# Altium footprint library TerminalBlock_WAGO.PcbLib: 170 footprints (part 9 of 11)
Each footprint in its own frame and in the unit in brackets; x right, y up, seen from the top. Pads: shape width x height; smd on the part's side, far side on the other; paste and mask are expansions set on the pad; w line width, h text height; cw(c..) or ccw(c..) is an arc to the next point about the centre after c.
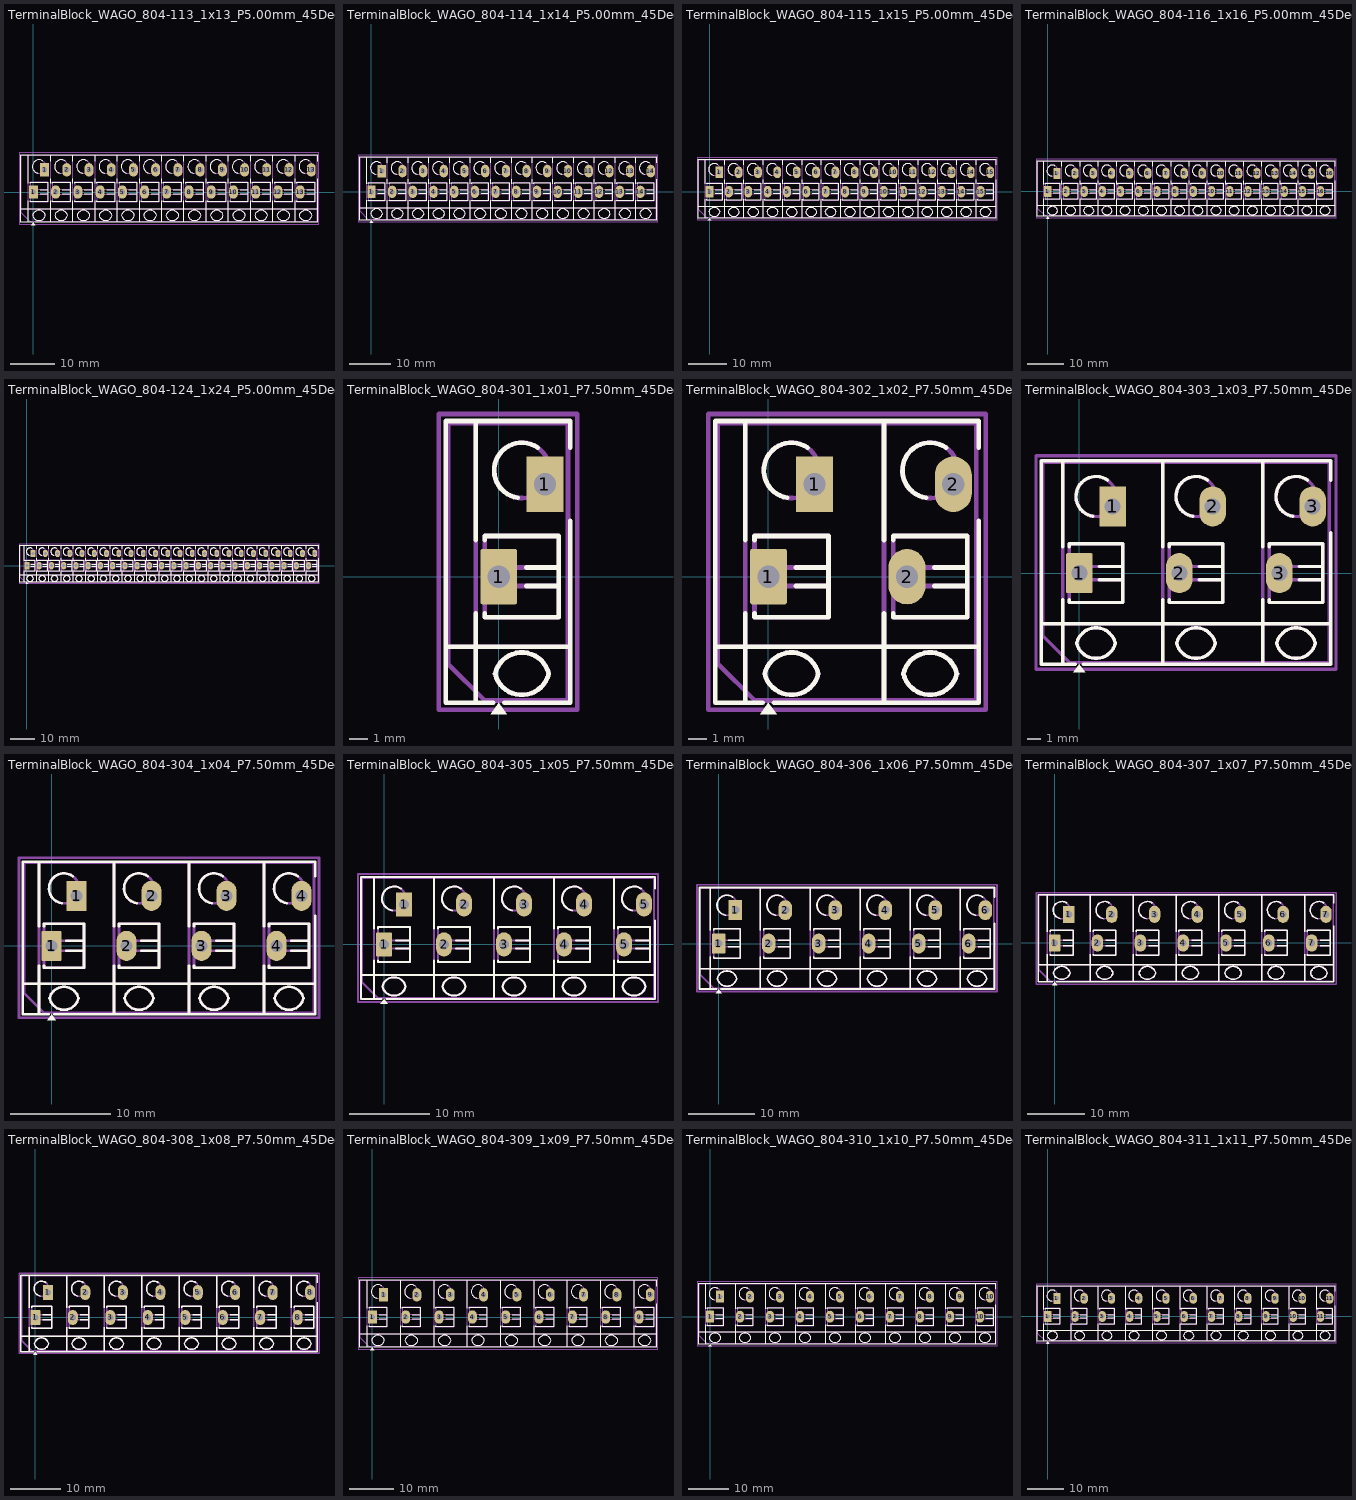
[diagram p8: the footprints below, top view; thin cyan lines are the x and y axes]

## TerminalBlock_WAGO_804-113_1x13_P5.00mm_45Degree [mm]
pads (26):
  rrect12% 2x3 hole 1.2: 1(0,0)
  rect 2x3 hole 1.2: 1(2.5,5)
  rrect100% 2x3 hole 1.2: 2(5,0) 2(7.5,5) 3(10,0) 3(12.5,5) 4(15,0) 4(17.5,5) 5(20,0) 5(22.5,5) 6(25,0) 6(27.5,5) 7(30,0) 7(32.5,5) 8(35,0) 8(37.5,5) 9(40,0) 9(42.5,5) 10(45,0) 10(47.5,5) 11(50,0) 11(52.5,5) 12(55,0) 12(57.5,5) 13(60,0) 13(62.5,5)
F.SilkS:
  drawing of 189 lines, arcs and shapes, not listed
F.Fab:
  drawing of 162 lines, arcs and shapes, not listed
  text "'.Designator'" at 26.453,0.96 h1
F.CrtYd:
  lines w0.254: -3.25,-7.2 -3.25,8.8 64.25,8.8 64.25,-7.2 -3.25,-7.2

## TerminalBlock_WAGO_804-114_1x14_P5.00mm_45Degree [mm]
pads (28):
  rrect12% 2x3 hole 1.2: 1(0,0)
  rect 2x3 hole 1.2: 1(2.5,5)
  rrect100% 2x3 hole 1.2: 2(5,0) 2(7.5,5) 3(10,0) 3(12.5,5) 4(15,0) 4(17.5,5) 5(20,0) 5(22.5,5) 6(25,0) 6(27.5,5) 7(30,0) 7(32.5,5) 8(35,0) 8(37.5,5) 9(40,0) 9(42.5,5) 10(45,0) 10(47.5,5) 11(50,0) 11(52.5,5) 12(55,0) 12(57.5,5) 13(60,0) 13(62.5,5) 14(65,0) 14(67.5,5)
F.SilkS:
  drawing of 203 lines, arcs and shapes, not listed
F.Fab:
  drawing of 174 lines, arcs and shapes, not listed
  text "'.Designator'" at 28.953,0.96 h1
F.CrtYd:
  lines w0.254: -3.25,-7.2 -3.25,8.8 69.25,8.8 69.25,-7.2 -3.25,-7.2

## TerminalBlock_WAGO_804-115_1x15_P5.00mm_45Degree [mm]
pads (30):
  rrect12% 2x3 hole 1.2: 1(0,0)
  rect 2x3 hole 1.2: 1(2.5,5)
  rrect100% 2x3 hole 1.2: 2(5,0) 2(7.5,5) 3(10,0) 3(12.5,5) 4(15,0) 4(17.5,5) 5(20,0) 5(22.5,5) 6(25,0) 6(27.5,5) 7(30,0) 7(32.5,5) 8(35,0) 8(37.5,5) 9(40,0) 9(42.5,5) 10(45,0) 10(47.5,5) 11(50,0) 11(52.5,5) 12(55,0) 12(57.5,5) 13(60,0) 13(62.5,5) 14(65,0) 14(67.5,5) 15(70,0) 15(72.5,5)
F.SilkS:
  drawing of 217 lines, arcs and shapes, not listed
F.Fab:
  drawing of 186 lines, arcs and shapes, not listed
  text "'.Designator'" at 31.453,0.96 h1
F.CrtYd:
  lines w0.254: -3.25,-7.2 -3.25,8.8 74.25,8.8 74.25,-7.2 -3.25,-7.2

## TerminalBlock_WAGO_804-116_1x16_P5.00mm_45Degree [mm]
pads (32):
  rrect12% 2x3 hole 1.2: 1(0,0)
  rect 2x3 hole 1.2: 1(2.5,5)
  rrect100% 2x3 hole 1.2: 2(5,0) 2(7.5,5) 3(10,0) 3(12.5,5) 4(15,0) 4(17.5,5) 5(20,0) 5(22.5,5) 6(25,0) 6(27.5,5) 7(30,0) 7(32.5,5) 8(35,0) 8(37.5,5) 9(40,0) 9(42.5,5) 10(45,0) 10(47.5,5) 11(50,0) 11(52.5,5) 12(55,0) 12(57.5,5) 13(60,0) 13(62.5,5) 14(65,0) 14(67.5,5) 15(70,0) 15(72.5,5) 16(75,0) 16(77.5,5)
F.SilkS:
  drawing of 231 lines, arcs and shapes, not listed
F.Fab:
  drawing of 198 lines, arcs and shapes, not listed
  text "'.Designator'" at 33.953,0.96 h1
F.CrtYd:
  lines w0.254: -3.25,-7.2 -3.25,8.8 79.25,8.8 79.25,-7.2 -3.25,-7.2

## TerminalBlock_WAGO_804-124_1x24_P5.00mm_45Degree [mm]
pads (48):
  rrect12% 2x3 hole 1.2: 1(0,0)
  rect 2x3 hole 1.2: 1(2.5,5)
  rrect100% 2x3 hole 1.2: 2(5,0) 2(7.5,5) 3(10,0) 3(12.5,5) 4(15,0) 4(17.5,5) 5(20,0) 5(22.5,5) 6(25,0) 6(27.5,5) 7(30,0) 7(32.5,5) 8(35,0) 8(37.5,5) 9(40,0) 9(42.5,5) 10(45,0) 10(47.5,5) 11(50,0) 11(52.5,5) 12(55,0) 12(57.5,5) 13(60,0) 13(62.5,5) 14(65,0) 14(67.5,5) 15(70,0) 15(72.5,5) 16(75,0) 16(77.5,5) 17(80,0) 17(82.5,5) 18(85,0) 18(87.5,5) 19(90,0) 19(92.5,5) 20(95,0) 20(97.5,5) 21(100,0) 21(102.5,5) 22(105,0) 22(107.5,5) 23(110,0) 23(112.5,5) 24(115,0) 24(117.5,5)
F.SilkS:
  drawing of 343 lines, arcs and shapes, not listed
F.Fab:
  drawing of 294 lines, arcs and shapes, not listed
  text "'.Designator'" at 53.953,0.96 h1
F.CrtYd:
  lines w0.254: -3.25,-7.2 -3.25,8.8 119.25,8.8 119.25,-7.2 -3.25,-7.2

## TerminalBlock_WAGO_804-301_1x01_P7.50mm_45Degree [mm]
pads (2):
  rrect12% 2x3 hole 1.2: 1(0,0)
  rect 2x3 hole 1.2: 1(2.5,5)
F.SilkS:
  region: 0.44,-7.43 -0.44,-7.43 0,-6.82
  lines w0.254: -2.87,-3.8 3.87,-3.8 ; -1.25,-6.82 -1.25,-1.98 ; -1.25,1.98 -1.25,8.42 ; -0.75,-1.98 -0.75,-2.2 3.25,-2.2 3.25,2.2 -0.75,2.2 -0.75,1.98 ; -0.3,-6.82 -2.87,-6.82 -2.87,8.42 3.87,8.42 3.87,6.98 ; 0.3,-6.82 3.87,-6.82 3.87,3.02 ; 1.02,4.268 cw(c1.25,5.75) 2.109,6.98 ; 1.48,-0.5 3.25,-0.5 3.25,0.5 1.48,0.5 ; -0.2,-5.25 cw(c1.25,-5.589) 2.7,-5.25 cw(c1.25,-4.911) -0.2,-5.25
F.Fab:
  circle w0.254: c1.25,5.75 r1.5
  lines w0.254: -2.75,-3.8 3.75,-3.8 ; -1.25,-6.7 -1.25,8.3 ; -2.75,-4.7 -2.75,8.3 3.75,8.3 3.75,-6.7 -0.75,-6.7 -2.75,-4.7 ; -0.75,-2.2 -0.75,2.2 3.25,2.2 3.25,-2.2 -0.75,-2.2 ; -0.75,-0.5 -0.75,0.5 3.25,0.5 3.25,-0.5 -0.75,-0.5 ; -0.2,-5.25 cw(c1.25,-5.589) 2.7,-5.25 cw(c1.25,-4.911) -0.2,-5.25
  text "'.Designator'" at -3.547,0.96 h1
F.CrtYd:
  lines w0.254: -3.25,-7.2 -3.25,8.8 4.25,8.8 4.25,-7.2 -3.25,-7.2

## TerminalBlock_WAGO_804-302_1x02_P7.50mm_45Degree [mm]
pads (4):
  rrect12% 2x3 hole 1.2: 1(0,0)
  rect 2x3 hole 1.2: 1(2.5,5)
  rrect100% 2x3 hole 1.2: 2(7.5,0) 2(10,5)
F.SilkS:
  region: 0.44,-7.43 -0.44,-7.43 0,-6.82
  lines w0.254: -2.87,-3.8 11.37,-3.8 ; -1.25,-6.82 -1.25,-1.98 ; -1.25,1.98 -1.25,8.42 ; -0.75,-1.98 -0.75,-2.2 3.25,-2.2 3.25,2.2 -0.75,2.2 -0.75,1.98 ; -0.3,-6.82 -2.87,-6.82 -2.87,8.42 11.37,8.42 11.37,6.98 ; 0.3,-6.82 11.37,-6.82 11.37,3.02 ; 1.02,4.268 cw(c1.25,5.75) 2.109,6.98 ; 1.48,-0.5 3.25,-0.5 3.25,0.5 1.48,0.5 ; 6.25,-6.82 6.25,-1.98 ; 6.25,1.98 6.25,8.42 ; 6.75,-1.98 6.75,-2.2 10.75,-2.2 10.75,2.2 6.75,2.2 6.75,1.98 ; 8.52,4.268 cw(c8.75,5.75) 9.609,6.98 ; 8.98,-0.5 10.75,-0.5 10.75,0.5 8.98,0.5 ; -0.2,-5.25 cw(c1.25,-5.589) 2.7,-5.25 cw(c1.25,-4.911) -0.2,-5.25 ; 7.3,-5.25 cw(c8.75,-5.589) 10.2,-5.25 cw(c8.75,-4.911) 7.3,-5.25
F.Fab:
  circle w0.254: c1.25,5.75 r1.5
  circle w0.254: c8.75,5.75 r1.5
  lines w0.254: -2.75,-3.8 11.25,-3.8 ; -1.25,-6.7 -1.25,8.3 ; 6.25,-6.7 6.25,8.3 ; -2.75,-4.7 -2.75,8.3 11.25,8.3 11.25,-6.7 -0.75,-6.7 -2.75,-4.7 ; -0.75,-2.2 -0.75,2.2 3.25,2.2 3.25,-2.2 -0.75,-2.2 ; -0.75,-0.5 -0.75,0.5 3.25,0.5 3.25,-0.5 -0.75,-0.5 ; -0.2,-5.25 cw(c1.25,-5.589) 2.7,-5.25 cw(c1.25,-4.911) -0.2,-5.25 ; 6.75,-2.2 6.75,2.2 10.75,2.2 10.75,-2.2 6.75,-2.2 ; 6.75,-0.5 6.75,0.5 10.75,0.5 10.75,-0.5 6.75,-0.5 ; 7.3,-5.25 cw(c8.75,-5.589) 10.2,-5.25 cw(c8.75,-4.911) 7.3,-5.25
  text "'.Designator'" at 0.203,0.96 h1
F.CrtYd:
  lines w0.254: -3.25,-7.2 -3.25,8.8 11.75,8.8 11.75,-7.2 -3.25,-7.2

## TerminalBlock_WAGO_804-303_1x03_P7.50mm_45Degree [mm]
pads (6):
  rrect12% 2x3 hole 1.2: 1(0,0)
  rect 2x3 hole 1.2: 1(2.5,5)
  rrect100% 2x3 hole 1.2: 2(7.5,0) 2(10,5) 3(15,0) 3(17.5,5)
F.SilkS:
  region: 0.44,-7.43 -0.44,-7.43 0,-6.82
  lines w0.254: -2.87,-3.8 18.87,-3.8 ; -1.25,-6.82 -1.25,-1.98 ; -1.25,1.98 -1.25,8.42 ; -0.75,-1.98 -0.75,-2.2 3.25,-2.2 3.25,2.2 -0.75,2.2 -0.75,1.98 ; -0.3,-6.82 -2.87,-6.82 -2.87,8.42 18.87,8.42 18.87,6.98 ; 0.3,-6.82 18.87,-6.82 18.87,3.02 ; 1.02,4.268 cw(c1.25,5.75) 2.109,6.98 ; 1.48,-0.5 3.25,-0.5 3.25,0.5 1.48,0.5 ; 6.25,-6.82 6.25,-1.98 ; 6.25,1.98 6.25,8.42 ; 6.75,-1.98 6.75,-2.2 10.75,-2.2 10.75,2.2 6.75,2.2 6.75,1.98 ; 8.52,4.268 cw(c8.75,5.75) 9.609,6.98 ; 8.98,-0.5 10.75,-0.5 10.75,0.5 8.98,0.5 ; 13.75,-6.82 13.75,-1.98 ; 13.75,1.98 13.75,8.42 ; 14.25,-1.98 14.25,-2.2 18.25,-2.2 18.25,2.2 14.25,2.2 14.25,1.98 ; 16.02,4.268 cw(c16.25,5.75) 17.109,6.98 ; 16.48,-0.5 18.25,-0.5 18.25,0.5 16.48,0.5 ; -0.2,-5.25 cw(c1.25,-5.589) 2.7,-5.25 cw(c1.25,-4.911) -0.2,-5.25 ; 7.3,-5.25 cw(c8.75,-5.589) 10.2,-5.25 cw(c8.75,-4.911) 7.3,-5.25 ; 14.8,-5.25 cw(c16.25,-5.589) 17.7,-5.25 cw(c16.25,-4.911) 14.8,-5.25
F.Fab:
  circle w0.254: c1.25,5.75 r1.5
  circle w0.254: c8.75,5.75 r1.5
  circle w0.254: c16.25,5.75 r1.5
  lines w0.254: -2.75,-3.8 18.75,-3.8 ; -1.25,-6.7 -1.25,8.3 ; 6.25,-6.7 6.25,8.3 ; 13.75,-6.7 13.75,8.3 ; -2.75,-4.7 -2.75,8.3 18.75,8.3 18.75,-6.7 -0.75,-6.7 -2.75,-4.7 ; -0.75,-2.2 -0.75,2.2 3.25,2.2 3.25,-2.2 -0.75,-2.2 ; -0.75,-0.5 -0.75,0.5 3.25,0.5 3.25,-0.5 -0.75,-0.5 ; -0.2,-5.25 cw(c1.25,-5.589) 2.7,-5.25 cw(c1.25,-4.911) -0.2,-5.25 ; 6.75,-2.2 6.75,2.2 10.75,2.2 10.75,-2.2 6.75,-2.2 ; 6.75,-0.5 6.75,0.5 10.75,0.5 10.75,-0.5 6.75,-0.5 ; 7.3,-5.25 cw(c8.75,-5.589) 10.2,-5.25 cw(c8.75,-4.911) 7.3,-5.25 ; 14.25,-2.2 14.25,2.2 18.25,2.2 18.25,-2.2 14.25,-2.2 ; 14.25,-0.5 14.25,0.5 18.25,0.5 18.25,-0.5 14.25,-0.5 ; 14.8,-5.25 cw(c16.25,-5.589) 17.7,-5.25 cw(c16.25,-4.911) 14.8,-5.25
  text "'.Designator'" at 3.953,0.96 h1
F.CrtYd:
  lines w0.254: -3.25,-7.2 -3.25,8.8 19.25,8.8 19.25,-7.2 -3.25,-7.2

## TerminalBlock_WAGO_804-304_1x04_P7.50mm_45Degree [mm]
pads (8):
  rrect12% 2x3 hole 1.2: 1(0,0)
  rect 2x3 hole 1.2: 1(2.5,5)
  rrect100% 2x3 hole 1.2: 2(7.5,0) 2(10,5) 3(15,0) 3(17.5,5) 4(22.5,0) 4(25,5)
F.SilkS:
  region: 0.44,-7.43 -0.44,-7.43 0,-6.82
  lines w0.254: -2.87,-3.8 26.37,-3.8 ; -1.25,-6.82 -1.25,-1.98 ; -1.25,1.98 -1.25,8.42 ; -0.75,-1.98 -0.75,-2.2 3.25,-2.2 3.25,2.2 -0.75,2.2 -0.75,1.98 ; -0.3,-6.82 -2.87,-6.82 -2.87,8.42 26.37,8.42 26.37,6.98 ; 0.3,-6.82 26.37,-6.82 26.37,3.02 ; 1.02,4.268 cw(c1.25,5.75) 2.109,6.98 ; 1.48,-0.5 3.25,-0.5 3.25,0.5 1.48,0.5 ; 6.25,-6.82 6.25,-1.98 ; 6.25,1.98 6.25,8.42 ; 6.75,-1.98 6.75,-2.2 10.75,-2.2 10.75,2.2 6.75,2.2 6.75,1.98 ; 8.52,4.268 cw(c8.75,5.75) 9.609,6.98 ; 8.98,-0.5 10.75,-0.5 10.75,0.5 8.98,0.5 ; 13.75,-6.82 13.75,-1.98 ; 13.75,1.98 13.75,8.42 ; 14.25,-1.98 14.25,-2.2 18.25,-2.2 18.25,2.2 14.25,2.2 14.25,1.98 ; 16.02,4.268 cw(c16.25,5.75) 17.109,6.98 ; 16.48,-0.5 18.25,-0.5 18.25,0.5 16.48,0.5 ; 21.25,-6.82 21.25,-1.98 ; 21.25,1.98 21.25,8.42 ; 21.75,-1.98 21.75,-2.2 25.75,-2.2 25.75,2.2 21.75,2.2 21.75,1.98 ; 23.52,4.268 cw(c23.75,5.75) 24.609,6.98 ; 23.98,-0.5 25.75,-0.5 25.75,0.5 23.98,0.5 ; -0.2,-5.25 cw(c1.25,-5.589) 2.7,-5.25 cw(c1.25,-4.911) -0.2,-5.25 ; 7.3,-5.25 cw(c8.75,-5.589) 10.2,-5.25 cw(c8.75,-4.911) 7.3,-5.25 ; 14.8,-5.25 cw(c16.25,-5.589) 17.7,-5.25 cw(c16.25,-4.911) 14.8,-5.25 ; 22.3,-5.25 cw(c23.75,-5.589) 25.2,-5.25 cw(c23.75,-4.911) 22.3,-5.25
F.Fab:
  circle w0.254: c1.25,5.75 r1.5
  circle w0.254: c8.75,5.75 r1.5
  circle w0.254: c16.25,5.75 r1.5
  circle w0.254: c23.75,5.75 r1.5
  lines w0.254: -2.75,-3.8 26.25,-3.8 ; -1.25,-6.7 -1.25,8.3 ; 6.25,-6.7 6.25,8.3 ; 13.75,-6.7 13.75,8.3 ; 21.25,-6.7 21.25,8.3 ; -2.75,-4.7 -2.75,8.3 26.25,8.3 26.25,-6.7 -0.75,-6.7 -2.75,-4.7 ; -0.75,-2.2 -0.75,2.2 3.25,2.2 3.25,-2.2 -0.75,-2.2 ; -0.75,-0.5 -0.75,0.5 3.25,0.5 3.25,-0.5 -0.75,-0.5 ; -0.2,-5.25 cw(c1.25,-5.589) 2.7,-5.25 cw(c1.25,-4.911) -0.2,-5.25 ; 6.75,-2.2 6.75,2.2 10.75,2.2 10.75,-2.2 6.75,-2.2 ; 6.75,-0.5 6.75,0.5 10.75,0.5 10.75,-0.5 6.75,-0.5 ; 7.3,-5.25 cw(c8.75,-5.589) 10.2,-5.25 cw(c8.75,-4.911) 7.3,-5.25 ; 14.25,-2.2 14.25,2.2 18.25,2.2 18.25,-2.2 14.25,-2.2 ; 14.25,-0.5 14.25,0.5 18.25,0.5 18.25,-0.5 14.25,-0.5 ; 14.8,-5.25 cw(c16.25,-5.589) 17.7,-5.25 cw(c16.25,-4.911) 14.8,-5.25 ; 21.75,-2.2 21.75,2.2 25.75,2.2 25.75,-2.2 21.75,-2.2 ; 21.75,-0.5 21.75,0.5 25.75,0.5 25.75,-0.5 21.75,-0.5 ; 22.3,-5.25 cw(c23.75,-5.589) 25.2,-5.25 cw(c23.75,-4.911) 22.3,-5.25
  text "'.Designator'" at 7.703,0.96 h1
F.CrtYd:
  lines w0.254: -3.25,-7.2 -3.25,8.8 26.75,8.8 26.75,-7.2 -3.25,-7.2

## TerminalBlock_WAGO_804-305_1x05_P7.50mm_45Degree [mm]
pads (10):
  rrect12% 2x3 hole 1.2: 1(0,0)
  rect 2x3 hole 1.2: 1(2.5,5)
  rrect100% 2x3 hole 1.2: 2(7.5,0) 2(10,5) 3(15,0) 3(17.5,5) 4(22.5,0) 4(25,5) 5(30,0) 5(32.5,5)
F.SilkS:
  region: 0.44,-7.43 -0.44,-7.43 0,-6.82
  lines w0.254: -2.87,-3.8 33.87,-3.8 ; -1.25,-6.82 -1.25,-1.98 ; -1.25,1.98 -1.25,8.42 ; -0.75,-1.98 -0.75,-2.2 3.25,-2.2 3.25,2.2 -0.75,2.2 -0.75,1.98 ; -0.3,-6.82 -2.87,-6.82 -2.87,8.42 33.87,8.42 33.87,6.98 ; 0.3,-6.82 33.87,-6.82 33.87,3.02 ; 1.02,4.268 cw(c1.25,5.75) 2.109,6.98 ; 1.48,-0.5 3.25,-0.5 3.25,0.5 1.48,0.5 ; 6.25,-6.82 6.25,-1.98 ; 6.25,1.98 6.25,8.42 ; 6.75,-1.98 6.75,-2.2 10.75,-2.2 10.75,2.2 6.75,2.2 6.75,1.98 ; 8.52,4.268 cw(c8.75,5.75) 9.609,6.98 ; 8.98,-0.5 10.75,-0.5 10.75,0.5 8.98,0.5 ; 13.75,-6.82 13.75,-1.98 ; 13.75,1.98 13.75,8.42 ; 14.25,-1.98 14.25,-2.2 18.25,-2.2 18.25,2.2 14.25,2.2 14.25,1.98 ; 16.02,4.268 cw(c16.25,5.75) 17.109,6.98 ; 16.48,-0.5 18.25,-0.5 18.25,0.5 16.48,0.5 ; 21.25,-6.82 21.25,-1.98 ; 21.25,1.98 21.25,8.42 ; 21.75,-1.98 21.75,-2.2 25.75,-2.2 25.75,2.2 21.75,2.2 21.75,1.98 ; 23.52,4.268 cw(c23.75,5.75) 24.609,6.98 ; 23.98,-0.5 25.75,-0.5 25.75,0.5 23.98,0.5 ; 28.75,-6.82 28.75,-1.98 ; 28.75,1.98 28.75,8.42 ; 29.25,-1.98 29.25,-2.2 33.25,-2.2 33.25,2.2 29.25,2.2 29.25,1.98 ; 31.02,4.268 cw(c31.25,5.75) 32.109,6.98 ; 31.48,-0.5 33.25,-0.5 33.25,0.5 31.48,0.5 ; -0.2,-5.25 cw(c1.25,-5.589) 2.7,-5.25 cw(c1.25,-4.911) -0.2,-5.25 ; 7.3,-5.25 cw(c8.75,-5.589) 10.2,-5.25 cw(c8.75,-4.911) 7.3,-5.25 ; 14.8,-5.25 cw(c16.25,-5.589) 17.7,-5.25 cw(c16.25,-4.911) 14.8,-5.25 ; 22.3,-5.25 cw(c23.75,-5.589) 25.2,-5.25 cw(c23.75,-4.911) 22.3,-5.25 ; 29.8,-5.25 cw(c31.25,-5.589) 32.7,-5.25 cw(c31.25,-4.911) 29.8,-5.25
F.Fab:
  circle w0.254: c1.25,5.75 r1.5
  circle w0.254: c8.75,5.75 r1.5
  circle w0.254: c16.25,5.75 r1.5
  circle w0.254: c23.75,5.75 r1.5
  circle w0.254: c31.25,5.75 r1.5
  lines w0.254: -2.75,-3.8 33.75,-3.8 ; -1.25,-6.7 -1.25,8.3 ; 6.25,-6.7 6.25,8.3 ; 13.75,-6.7 13.75,8.3 ; 21.25,-6.7 21.25,8.3 ; 28.75,-6.7 28.75,8.3 ; -2.75,-4.7 -2.75,8.3 33.75,8.3 33.75,-6.7 -0.75,-6.7 -2.75,-4.7 ; -0.75,-2.2 -0.75,2.2 3.25,2.2 3.25,-2.2 -0.75,-2.2 ; -0.75,-0.5 -0.75,0.5 3.25,0.5 3.25,-0.5 -0.75,-0.5 ; -0.2,-5.25 cw(c1.25,-5.589) 2.7,-5.25 cw(c1.25,-4.911) -0.2,-5.25 ; 6.75,-2.2 6.75,2.2 10.75,2.2 10.75,-2.2 6.75,-2.2 ; 6.75,-0.5 6.75,0.5 10.75,0.5 10.75,-0.5 6.75,-0.5 ; 7.3,-5.25 cw(c8.75,-5.589) 10.2,-5.25 cw(c8.75,-4.911) 7.3,-5.25 ; 14.25,-2.2 14.25,2.2 18.25,2.2 18.25,-2.2 14.25,-2.2 ; 14.25,-0.5 14.25,0.5 18.25,0.5 18.25,-0.5 14.25,-0.5 ; 14.8,-5.25 cw(c16.25,-5.589) 17.7,-5.25 cw(c16.25,-4.911) 14.8,-5.25 ; 21.75,-2.2 21.75,2.2 25.75,2.2 25.75,-2.2 21.75,-2.2 ; 21.75,-0.5 21.75,0.5 25.75,0.5 25.75,-0.5 21.75,-0.5 ; 22.3,-5.25 cw(c23.75,-5.589) 25.2,-5.25 cw(c23.75,-4.911) 22.3,-5.25 ; 29.25,-2.2 29.25,2.2 33.25,2.2 33.25,-2.2 29.25,-2.2 ; 29.25,-0.5 29.25,0.5 33.25,0.5 33.25,-0.5 29.25,-0.5 ; 29.8,-5.25 cw(c31.25,-5.589) 32.7,-5.25 cw(c31.25,-4.911) 29.8,-5.25
  text "'.Designator'" at 11.453,0.96 h1
F.CrtYd:
  lines w0.254: -3.25,-7.2 -3.25,8.8 34.25,8.8 34.25,-7.2 -3.25,-7.2

## TerminalBlock_WAGO_804-306_1x06_P7.50mm_45Degree [mm]
pads (12):
  rrect12% 2x3 hole 1.2: 1(0,0)
  rect 2x3 hole 1.2: 1(2.5,5)
  rrect100% 2x3 hole 1.2: 2(7.5,0) 2(10,5) 3(15,0) 3(17.5,5) 4(22.5,0) 4(25,5) 5(30,0) 5(32.5,5) 6(37.5,0) 6(40,5)
F.SilkS:
  region: 0.44,-7.43 -0.44,-7.43 0,-6.82
  lines w0.254: -2.87,-3.8 41.37,-3.8 ; -1.25,-6.82 -1.25,-1.98 ; -1.25,1.98 -1.25,8.42 ; -0.75,-1.98 -0.75,-2.2 3.25,-2.2 3.25,2.2 -0.75,2.2 -0.75,1.98 ; -0.3,-6.82 -2.87,-6.82 -2.87,8.42 41.37,8.42 41.37,6.98 ; 0.3,-6.82 41.37,-6.82 41.37,3.02 ; 1.02,4.268 cw(c1.25,5.75) 2.109,6.98 ; 1.48,-0.5 3.25,-0.5 3.25,0.5 1.48,0.5 ; 6.25,-6.82 6.25,-1.98 ; 6.25,1.98 6.25,8.42 ; 6.75,-1.98 6.75,-2.2 10.75,-2.2 10.75,2.2 6.75,2.2 6.75,1.98 ; 8.52,4.268 cw(c8.75,5.75) 9.609,6.98 ; 8.98,-0.5 10.75,-0.5 10.75,0.5 8.98,0.5 ; 13.75,-6.82 13.75,-1.98 ; 13.75,1.98 13.75,8.42 ; 14.25,-1.98 14.25,-2.2 18.25,-2.2 18.25,2.2 14.25,2.2 14.25,1.98 ; 16.02,4.268 cw(c16.25,5.75) 17.109,6.98 ; 16.48,-0.5 18.25,-0.5 18.25,0.5 16.48,0.5 ; 21.25,-6.82 21.25,-1.98 ; 21.25,1.98 21.25,8.42 ; 21.75,-1.98 21.75,-2.2 25.75,-2.2 25.75,2.2 21.75,2.2 21.75,1.98 ; 23.52,4.268 cw(c23.75,5.75) 24.609,6.98 ; 23.98,-0.5 25.75,-0.5 25.75,0.5 23.98,0.5 ; 28.75,-6.82 28.75,-1.98 ; 28.75,1.98 28.75,8.42 ; 29.25,-1.98 29.25,-2.2 33.25,-2.2 33.25,2.2 29.25,2.2 29.25,1.98 ; 31.02,4.268 cw(c31.25,5.75) 32.109,6.98 ; 31.48,-0.5 33.25,-0.5 33.25,0.5 31.48,0.5 ; 36.25,-6.82 36.25,-1.98 ; 36.25,1.98 36.25,8.42 ; 36.75,-1.98 36.75,-2.2 40.75,-2.2 40.75,2.2 36.75,2.2 36.75,1.98 ; 38.52,4.268 cw(c38.75,5.75) 39.609,6.98 ; 38.98,-0.5 40.75,-0.5 40.75,0.5 38.98,0.5 ; -0.2,-5.25 cw(c1.25,-5.589) 2.7,-5.25 cw(c1.25,-4.911) -0.2,-5.25 ; 7.3,-5.25 cw(c8.75,-5.589) 10.2,-5.25 cw(c8.75,-4.911) 7.3,-5.25 ; 14.8,-5.25 cw(c16.25,-5.589) 17.7,-5.25 cw(c16.25,-4.911) 14.8,-5.25 ; 22.3,-5.25 cw(c23.75,-5.589) 25.2,-5.25 cw(c23.75,-4.911) 22.3,-5.25 ; 29.8,-5.25 cw(c31.25,-5.589) 32.7,-5.25 cw(c31.25,-4.911) 29.8,-5.25 ; 37.3,-5.25 cw(c38.75,-5.589) 40.2,-5.25 cw(c38.75,-4.911) 37.3,-5.25
F.Fab:
  circle w0.254: c1.25,5.75 r1.5
  circle w0.254: c8.75,5.75 r1.5
  circle w0.254: c16.25,5.75 r1.5
  circle w0.254: c23.75,5.75 r1.5
  circle w0.254: c31.25,5.75 r1.5
  circle w0.254: c38.75,5.75 r1.5
  lines w0.254: -2.75,-3.8 41.25,-3.8 ; -1.25,-6.7 -1.25,8.3 ; 6.25,-6.7 6.25,8.3 ; 13.75,-6.7 13.75,8.3 ; 21.25,-6.7 21.25,8.3 ; 28.75,-6.7 28.75,8.3 ; 36.25,-6.7 36.25,8.3 ; -2.75,-4.7 -2.75,8.3 41.25,8.3 41.25,-6.7 -0.75,-6.7 -2.75,-4.7 ; -0.75,-2.2 -0.75,2.2 3.25,2.2 3.25,-2.2 -0.75,-2.2 ; -0.75,-0.5 -0.75,0.5 3.25,0.5 3.25,-0.5 -0.75,-0.5 ; -0.2,-5.25 cw(c1.25,-5.589) 2.7,-5.25 cw(c1.25,-4.911) -0.2,-5.25 ; 6.75,-2.2 6.75,2.2 10.75,2.2 10.75,-2.2 6.75,-2.2 ; 6.75,-0.5 6.75,0.5 10.75,0.5 10.75,-0.5 6.75,-0.5 ; 7.3,-5.25 cw(c8.75,-5.589) 10.2,-5.25 cw(c8.75,-4.911) 7.3,-5.25 ; 14.25,-2.2 14.25,2.2 18.25,2.2 18.25,-2.2 14.25,-2.2 ; 14.25,-0.5 14.25,0.5 18.25,0.5 18.25,-0.5 14.25,-0.5 ; 14.8,-5.25 cw(c16.25,-5.589) 17.7,-5.25 cw(c16.25,-4.911) 14.8,-5.25 ; 21.75,-2.2 21.75,2.2 25.75,2.2 25.75,-2.2 21.75,-2.2 ; 21.75,-0.5 21.75,0.5 25.75,0.5 25.75,-0.5 21.75,-0.5 ; 22.3,-5.25 cw(c23.75,-5.589) 25.2,-5.25 cw(c23.75,-4.911) 22.3,-5.25 ; 29.25,-2.2 29.25,2.2 33.25,2.2 33.25,-2.2 29.25,-2.2 ; 29.25,-0.5 29.25,0.5 33.25,0.5 33.25,-0.5 29.25,-0.5 ; 29.8,-5.25 cw(c31.25,-5.589) 32.7,-5.25 cw(c31.25,-4.911) 29.8,-5.25 ; 36.75,-2.2 36.75,2.2 40.75,2.2 40.75,-2.2 36.75,-2.2 ; 36.75,-0.5 36.75,0.5 40.75,0.5 40.75,-0.5 36.75,-0.5 ; 37.3,-5.25 cw(c38.75,-5.589) 40.2,-5.25 cw(c38.75,-4.911) 37.3,-5.25
  text "'.Designator'" at 15.203,0.96 h1
F.CrtYd:
  lines w0.254: -3.25,-7.2 -3.25,8.8 41.75,8.8 41.75,-7.2 -3.25,-7.2

## TerminalBlock_WAGO_804-307_1x07_P7.50mm_45Degree [mm]
pads (14):
  rrect12% 2x3 hole 1.2: 1(0,0)
  rect 2x3 hole 1.2: 1(2.5,5)
  rrect100% 2x3 hole 1.2: 2(7.5,0) 2(10,5) 3(15,0) 3(17.5,5) 4(22.5,0) 4(25,5) 5(30,0) 5(32.5,5) 6(37.5,0) 6(40,5) 7(45,0) 7(47.5,5)
F.SilkS:
  region: 0.44,-7.43 -0.44,-7.43 0,-6.82
  lines w0.254: -2.87,-3.8 48.87,-3.8 ; -1.25,-6.82 -1.25,-1.98 ; -1.25,1.98 -1.25,8.42 ; -0.75,-1.98 -0.75,-2.2 3.25,-2.2 3.25,2.2 -0.75,2.2 -0.75,1.98 ; -0.3,-6.82 -2.87,-6.82 -2.87,8.42 48.87,8.42 48.87,6.98 ; 0.3,-6.82 48.87,-6.82 48.87,3.02 ; 1.02,4.268 cw(c1.25,5.75) 2.109,6.98 ; 1.48,-0.5 3.25,-0.5 3.25,0.5 1.48,0.5 ; 6.25,-6.82 6.25,-1.98 ; 6.25,1.98 6.25,8.42 ; 6.75,-1.98 6.75,-2.2 10.75,-2.2 10.75,2.2 6.75,2.2 6.75,1.98 ; 8.52,4.268 cw(c8.75,5.75) 9.609,6.98 ; 8.98,-0.5 10.75,-0.5 10.75,0.5 8.98,0.5 ; 13.75,-6.82 13.75,-1.98 ; 13.75,1.98 13.75,8.42 ; 14.25,-1.98 14.25,-2.2 18.25,-2.2 18.25,2.2 14.25,2.2 14.25,1.98 ; 16.02,4.268 cw(c16.25,5.75) 17.109,6.98 ; 16.48,-0.5 18.25,-0.5 18.25,0.5 16.48,0.5 ; 21.25,-6.82 21.25,-1.98 ; 21.25,1.98 21.25,8.42 ; 21.75,-1.98 21.75,-2.2 25.75,-2.2 25.75,2.2 21.75,2.2 21.75,1.98 ; 23.52,4.268 cw(c23.75,5.75) 24.609,6.98 ; 23.98,-0.5 25.75,-0.5 25.75,0.5 23.98,0.5 ; 28.75,-6.82 28.75,-1.98 ; 28.75,1.98 28.75,8.42 ; 29.25,-1.98 29.25,-2.2 33.25,-2.2 33.25,2.2 29.25,2.2 29.25,1.98 ; 31.02,4.268 cw(c31.25,5.75) 32.109,6.98 ; 31.48,-0.5 33.25,-0.5 33.25,0.5 31.48,0.5 ; 36.25,-6.82 36.25,-1.98 ; 36.25,1.98 36.25,8.42 ; 36.75,-1.98 36.75,-2.2 40.75,-2.2 40.75,2.2 36.75,2.2 36.75,1.98 ; 38.52,4.268 cw(c38.75,5.75) 39.609,6.98 ; 38.98,-0.5 40.75,-0.5 40.75,0.5 38.98,0.5 ; 43.75,-6.82 43.75,-1.98 ; 43.75,1.98 43.75,8.42 ; 44.25,-1.98 44.25,-2.2 48.25,-2.2 48.25,2.2 44.25,2.2 44.25,1.98 ; 46.02,4.268 cw(c46.25,5.75) 47.109,6.98 ; 46.48,-0.5 48.25,-0.5 48.25,0.5 46.48,0.5 ; -0.2,-5.25 cw(c1.25,-5.589) 2.7,-5.25 cw(c1.25,-4.911) -0.2,-5.25 ; 7.3,-5.25 cw(c8.75,-5.589) 10.2,-5.25 cw(c8.75,-4.911) 7.3,-5.25 ; 14.8,-5.25 cw(c16.25,-5.589) 17.7,-5.25 cw(c16.25,-4.911) 14.8,-5.25 ; 22.3,-5.25 cw(c23.75,-5.589) 25.2,-5.25 cw(c23.75,-4.911) 22.3,-5.25 ; 29.8,-5.25 cw(c31.25,-5.589) 32.7,-5.25 cw(c31.25,-4.911) 29.8,-5.25 ; 37.3,-5.25 cw(c38.75,-5.589) 40.2,-5.25 cw(c38.75,-4.911) 37.3,-5.25 ; 44.8,-5.25 cw(c46.25,-5.589) 47.7,-5.25 cw(c46.25,-4.911) 44.8,-5.25
F.Fab:
  circle w0.254: c1.25,5.75 r1.5
  circle w0.254: c8.75,5.75 r1.5
  circle w0.254: c16.25,5.75 r1.5
  circle w0.254: c23.75,5.75 r1.5
  circle w0.254: c31.25,5.75 r1.5
  circle w0.254: c38.75,5.75 r1.5
  circle w0.254: c46.25,5.75 r1.5
  lines w0.254: -2.75,-3.8 48.75,-3.8 ; -1.25,-6.7 -1.25,8.3 ; 6.25,-6.7 6.25,8.3 ; 13.75,-6.7 13.75,8.3 ; 21.25,-6.7 21.25,8.3 ; 28.75,-6.7 28.75,8.3 ; 36.25,-6.7 36.25,8.3 ; 43.75,-6.7 43.75,8.3 ; -2.75,-4.7 -2.75,8.3 48.75,8.3 48.75,-6.7 -0.75,-6.7 -2.75,-4.7 ; -0.75,-2.2 -0.75,2.2 3.25,2.2 3.25,-2.2 -0.75,-2.2 ; -0.75,-0.5 -0.75,0.5 3.25,0.5 3.25,-0.5 -0.75,-0.5 ; -0.2,-5.25 cw(c1.25,-5.589) 2.7,-5.25 cw(c1.25,-4.911) -0.2,-5.25 ; 6.75,-2.2 6.75,2.2 10.75,2.2 10.75,-2.2 6.75,-2.2 ; 6.75,-0.5 6.75,0.5 10.75,0.5 10.75,-0.5 6.75,-0.5 ; 7.3,-5.25 cw(c8.75,-5.589) 10.2,-5.25 cw(c8.75,-4.911) 7.3,-5.25 ; 14.25,-2.2 14.25,2.2 18.25,2.2 18.25,-2.2 14.25,-2.2 ; 14.25,-0.5 14.25,0.5 18.25,0.5 18.25,-0.5 14.25,-0.5 ; 14.8,-5.25 cw(c16.25,-5.589) 17.7,-5.25 cw(c16.25,-4.911) 14.8,-5.25 ; 21.75,-2.2 21.75,2.2 25.75,2.2 25.75,-2.2 21.75,-2.2 ; 21.75,-0.5 21.75,0.5 25.75,0.5 25.75,-0.5 21.75,-0.5 ; 22.3,-5.25 cw(c23.75,-5.589) 25.2,-5.25 cw(c23.75,-4.911) 22.3,-5.25 ; 29.25,-2.2 29.25,2.2 33.25,2.2 33.25,-2.2 29.25,-2.2 ; 29.25,-0.5 29.25,0.5 33.25,0.5 33.25,-0.5 29.25,-0.5 ; 29.8,-5.25 cw(c31.25,-5.589) 32.7,-5.25 cw(c31.25,-4.911) 29.8,-5.25 ; 36.75,-2.2 36.75,2.2 40.75,2.2 40.75,-2.2 36.75,-2.2 ; 36.75,-0.5 36.75,0.5 40.75,0.5 40.75,-0.5 36.75,-0.5 ; 37.3,-5.25 cw(c38.75,-5.589) 40.2,-5.25 cw(c38.75,-4.911) 37.3,-5.25 ; 44.25,-2.2 44.25,2.2 48.25,2.2 48.25,-2.2 44.25,-2.2 ; 44.25,-0.5 44.25,0.5 48.25,0.5 48.25,-0.5 44.25,-0.5 ; 44.8,-5.25 cw(c46.25,-5.589) 47.7,-5.25 cw(c46.25,-4.911) 44.8,-5.25
  text "'.Designator'" at 18.953,0.96 h1
F.CrtYd:
  lines w0.254: -3.25,-7.2 -3.25,8.8 49.25,8.8 49.25,-7.2 -3.25,-7.2

## TerminalBlock_WAGO_804-308_1x08_P7.50mm_45Degree [mm]
pads (16):
  rrect12% 2x3 hole 1.2: 1(0,0)
  rect 2x3 hole 1.2: 1(2.5,5)
  rrect100% 2x3 hole 1.2: 2(7.5,0) 2(10,5) 3(15,0) 3(17.5,5) 4(22.5,0) 4(25,5) 5(30,0) 5(32.5,5) 6(37.5,0) 6(40,5) 7(45,0) 7(47.5,5) 8(52.5,0) 8(55,5)
F.SilkS:
  region: 0.44,-7.43 -0.44,-7.43 0,-6.82
  lines w0.254: -2.87,-3.8 56.37,-3.8 ; -1.25,-6.82 -1.25,-1.98 ; -1.25,1.98 -1.25,8.42 ; -0.75,-1.98 -0.75,-2.2 3.25,-2.2 3.25,2.2 -0.75,2.2 -0.75,1.98 ; -0.3,-6.82 -2.87,-6.82 -2.87,8.42 56.37,8.42 56.37,6.98 ; 0.3,-6.82 56.37,-6.82 56.37,3.02 ; 1.02,4.268 cw(c1.25,5.75) 2.109,6.98 ; 1.48,-0.5 3.25,-0.5 3.25,0.5 1.48,0.5 ; 6.25,-6.82 6.25,-1.98 ; 6.25,1.98 6.25,8.42 ; 6.75,-1.98 6.75,-2.2 10.75,-2.2 10.75,2.2 6.75,2.2 6.75,1.98 ; 8.52,4.268 cw(c8.75,5.75) 9.609,6.98 ; 8.98,-0.5 10.75,-0.5 10.75,0.5 8.98,0.5 ; 13.75,-6.82 13.75,-1.98 ; 13.75,1.98 13.75,8.42 ; 14.25,-1.98 14.25,-2.2 18.25,-2.2 18.25,2.2 14.25,2.2 14.25,1.98 ; 16.02,4.268 cw(c16.25,5.75) 17.109,6.98 ; 16.48,-0.5 18.25,-0.5 18.25,0.5 16.48,0.5 ; 21.25,-6.82 21.25,-1.98 ; 21.25,1.98 21.25,8.42 ; 21.75,-1.98 21.75,-2.2 25.75,-2.2 25.75,2.2 21.75,2.2 21.75,1.98 ; 23.52,4.268 cw(c23.75,5.75) 24.609,6.98 ; 23.98,-0.5 25.75,-0.5 25.75,0.5 23.98,0.5 ; 28.75,-6.82 28.75,-1.98 ; 28.75,1.98 28.75,8.42 ; 29.25,-1.98 29.25,-2.2 33.25,-2.2 33.25,2.2 29.25,2.2 29.25,1.98 ; 31.02,4.268 cw(c31.25,5.75) 32.109,6.98 ; 31.48,-0.5 33.25,-0.5 33.25,0.5 31.48,0.5 ; 36.25,-6.82 36.25,-1.98 ; 36.25,1.98 36.25,8.42 ; 36.75,-1.98 36.75,-2.2 40.75,-2.2 40.75,2.2 36.75,2.2 36.75,1.98 ; 38.52,4.268 cw(c38.75,5.75) 39.609,6.98 ; 38.98,-0.5 40.75,-0.5 40.75,0.5 38.98,0.5 ; 43.75,-6.82 43.75,-1.98 ; 43.75,1.98 43.75,8.42 ; 44.25,-1.98 44.25,-2.2 48.25,-2.2 48.25,2.2 44.25,2.2 44.25,1.98 ; 46.02,4.268 cw(c46.25,5.75) 47.109,6.98 ; 46.48,-0.5 48.25,-0.5 48.25,0.5 46.48,0.5 ; 51.25,-6.82 51.25,-1.98 ; 51.25,1.98 51.25,8.42 ; 51.75,-1.98 51.75,-2.2 55.75,-2.2 55.75,2.2 51.75,2.2 51.75,1.98 ; 53.52,4.268 cw(c53.75,5.75) 54.609,6.98 ; 53.98,-0.5 55.75,-0.5 55.75,0.5 53.98,0.5 ; -0.2,-5.25 cw(c1.25,-5.589) 2.7,-5.25 cw(c1.25,-4.911) -0.2,-5.25 ; 7.3,-5.25 cw(c8.75,-5.589) 10.2,-5.25 cw(c8.75,-4.911) 7.3,-5.25 ; 14.8,-5.25 cw(c16.25,-5.589) 17.7,-5.25 cw(c16.25,-4.911) 14.8,-5.25 ; 22.3,-5.25 cw(c23.75,-5.589) 25.2,-5.25 cw(c23.75,-4.911) 22.3,-5.25 ; 29.8,-5.25 cw(c31.25,-5.589) 32.7,-5.25 cw(c31.25,-4.911) 29.8,-5.25 ; 37.3,-5.25 cw(c38.75,-5.589) 40.2,-5.25 cw(c38.75,-4.911) 37.3,-5.25 ; 44.8,-5.25 cw(c46.25,-5.589) 47.7,-5.25 cw(c46.25,-4.911) 44.8,-5.25 ; 52.3,-5.25 cw(c53.75,-5.589) 55.2,-5.25 cw(c53.75,-4.911) 52.3,-5.25
F.Fab:
  circle w0.254: c1.25,5.75 r1.5
  circle w0.254: c8.75,5.75 r1.5
  circle w0.254: c16.25,5.75 r1.5
  circle w0.254: c23.75,5.75 r1.5
  circle w0.254: c31.25,5.75 r1.5
  circle w0.254: c38.75,5.75 r1.5
  circle w0.254: c46.25,5.75 r1.5
  circle w0.254: c53.75,5.75 r1.5
  lines w0.254: -2.75,-3.8 56.25,-3.8 ; -1.25,-6.7 -1.25,8.3 ; 6.25,-6.7 6.25,8.3 ; 13.75,-6.7 13.75,8.3 ; 21.25,-6.7 21.25,8.3 ; 28.75,-6.7 28.75,8.3 ; 36.25,-6.7 36.25,8.3 ; 43.75,-6.7 43.75,8.3 ; 51.25,-6.7 51.25,8.3 ; -2.75,-4.7 -2.75,8.3 56.25,8.3 56.25,-6.7 -0.75,-6.7 -2.75,-4.7 ; -0.75,-2.2 -0.75,2.2 3.25,2.2 3.25,-2.2 -0.75,-2.2 ; -0.75,-0.5 -0.75,0.5 3.25,0.5 3.25,-0.5 -0.75,-0.5 ; -0.2,-5.25 cw(c1.25,-5.589) 2.7,-5.25 cw(c1.25,-4.911) -0.2,-5.25 ; 6.75,-2.2 6.75,2.2 10.75,2.2 10.75,-2.2 6.75,-2.2 ; 6.75,-0.5 6.75,0.5 10.75,0.5 10.75,-0.5 6.75,-0.5 ; 7.3,-5.25 cw(c8.75,-5.589) 10.2,-5.25 cw(c8.75,-4.911) 7.3,-5.25 ; 14.25,-2.2 14.25,2.2 18.25,2.2 18.25,-2.2 14.25,-2.2 ; 14.25,-0.5 14.25,0.5 18.25,0.5 18.25,-0.5 14.25,-0.5 ; 14.8,-5.25 cw(c16.25,-5.589) 17.7,-5.25 cw(c16.25,-4.911) 14.8,-5.25 ; 21.75,-2.2 21.75,2.2 25.75,2.2 25.75,-2.2 21.75,-2.2 ; 21.75,-0.5 21.75,0.5 25.75,0.5 25.75,-0.5 21.75,-0.5 ; 22.3,-5.25 cw(c23.75,-5.589) 25.2,-5.25 cw(c23.75,-4.911) 22.3,-5.25 ; 29.25,-2.2 29.25,2.2 33.25,2.2 33.25,-2.2 29.25,-2.2 ; 29.25,-0.5 29.25,0.5 33.25,0.5 33.25,-0.5 29.25,-0.5 ; 29.8,-5.25 cw(c31.25,-5.589) 32.7,-5.25 cw(c31.25,-4.911) 29.8,-5.25 ; 36.75,-2.2 36.75,2.2 40.75,2.2 40.75,-2.2 36.75,-2.2 ; 36.75,-0.5 36.75,0.5 40.75,0.5 40.75,-0.5 36.75,-0.5 ; 37.3,-5.25 cw(c38.75,-5.589) 40.2,-5.25 cw(c38.75,-4.911) 37.3,-5.25 ; 44.25,-2.2 44.25,2.2 48.25,2.2 48.25,-2.2 44.25,-2.2 ; 44.25,-0.5 44.25,0.5 48.25,0.5 48.25,-0.5 44.25,-0.5 ; 44.8,-5.25 cw(c46.25,-5.589) 47.7,-5.25 cw(c46.25,-4.911) 44.8,-5.25 ; 51.75,-2.2 51.75,2.2 55.75,2.2 55.75,-2.2 51.75,-2.2 ; 51.75,-0.5 51.75,0.5 55.75,0.5 55.75,-0.5 51.75,-0.5 ; 52.3,-5.25 cw(c53.75,-5.589) 55.2,-5.25 cw(c53.75,-4.911) 52.3,-5.25
  text "'.Designator'" at 22.703,0.96 h1
F.CrtYd:
  lines w0.254: -3.25,-7.2 -3.25,8.8 56.75,8.8 56.75,-7.2 -3.25,-7.2

## TerminalBlock_WAGO_804-309_1x09_P7.50mm_45Degree [mm]
pads (18):
  rrect12% 2x3 hole 1.2: 1(0,0)
  rect 2x3 hole 1.2: 1(2.5,5)
  rrect100% 2x3 hole 1.2: 2(7.5,0) 2(10,5) 3(15,0) 3(17.5,5) 4(22.5,0) 4(25,5) 5(30,0) 5(32.5,5) 6(37.5,0) 6(40,5) 7(45,0) 7(47.5,5) 8(52.5,0) 8(55,5) 9(60,0) 9(62.5,5)
F.SilkS:
  region: 0.44,-7.43 -0.44,-7.43 0,-6.82
  lines w0.254: -2.87,-3.8 63.87,-3.8 ; -1.25,-6.82 -1.25,-1.98 ; -1.25,1.98 -1.25,8.42 ; -0.75,-1.98 -0.75,-2.2 3.25,-2.2 3.25,2.2 -0.75,2.2 -0.75,1.98 ; -0.3,-6.82 -2.87,-6.82 -2.87,8.42 63.87,8.42 63.87,6.98 ; 0.3,-6.82 63.87,-6.82 63.87,3.02 ; 1.02,4.268 cw(c1.25,5.75) 2.109,6.98 ; 1.48,-0.5 3.25,-0.5 3.25,0.5 1.48,0.5 ; 6.25,-6.82 6.25,-1.98 ; 6.25,1.98 6.25,8.42 ; 6.75,-1.98 6.75,-2.2 10.75,-2.2 10.75,2.2 6.75,2.2 6.75,1.98 ; 8.52,4.268 cw(c8.75,5.75) 9.609,6.98 ; 8.98,-0.5 10.75,-0.5 10.75,0.5 8.98,0.5 ; 13.75,-6.82 13.75,-1.98 ; 13.75,1.98 13.75,8.42 ; 14.25,-1.98 14.25,-2.2 18.25,-2.2 18.25,2.2 14.25,2.2 14.25,1.98 ; 16.02,4.268 cw(c16.25,5.75) 17.109,6.98 ; 16.48,-0.5 18.25,-0.5 18.25,0.5 16.48,0.5 ; 21.25,-6.82 21.25,-1.98 ; 21.25,1.98 21.25,8.42 ; 21.75,-1.98 21.75,-2.2 25.75,-2.2 25.75,2.2 21.75,2.2 21.75,1.98 ; 23.52,4.268 cw(c23.75,5.75) 24.609,6.98 ; 23.98,-0.5 25.75,-0.5 25.75,0.5 23.98,0.5 ; 28.75,-6.82 28.75,-1.98 ; 28.75,1.98 28.75,8.42 ; 29.25,-1.98 29.25,-2.2 33.25,-2.2 33.25,2.2 29.25,2.2 29.25,1.98 ; 31.02,4.268 cw(c31.25,5.75) 32.109,6.98 ; 31.48,-0.5 33.25,-0.5 33.25,0.5 31.48,0.5 ; 36.25,-6.82 36.25,-1.98 ; 36.25,1.98 36.25,8.42 ; 36.75,-1.98 36.75,-2.2 40.75,-2.2 40.75,2.2 36.75,2.2 36.75,1.98 ; 38.52,4.268 cw(c38.75,5.75) 39.609,6.98 ; 38.98,-0.5 40.75,-0.5 40.75,0.5 38.98,0.5 ; 43.75,-6.82 43.75,-1.98 ; 43.75,1.98 43.75,8.42 ; 44.25,-1.98 44.25,-2.2 48.25,-2.2 48.25,2.2 44.25,2.2 44.25,1.98 ; 46.02,4.268 cw(c46.25,5.75) 47.109,6.98 ; 46.48,-0.5 48.25,-0.5 48.25,0.5 46.48,0.5 ; 51.25,-6.82 51.25,-1.98 ; 51.25,1.98 51.25,8.42 ; 51.75,-1.98 51.75,-2.2 55.75,-2.2 55.75,2.2 51.75,2.2 51.75,1.98 ; 53.52,4.268 cw(c53.75,5.75) 54.609,6.98 ; 53.98,-0.5 55.75,-0.5 55.75,0.5 53.98,0.5 ; 58.75,-6.82 58.75,-1.98 ; 58.75,1.98 58.75,8.42 ; 59.25,-1.98 59.25,-2.2 63.25,-2.2 63.25,2.2 59.25,2.2 59.25,1.98 ; 61.02,4.268 cw(c61.25,5.75) 62.109,6.98 ; 61.48,-0.5 63.25,-0.5 63.25,0.5 61.48,0.5 ; -0.2,-5.25 cw(c1.25,-5.589) 2.7,-5.25 cw(c1.25,-4.911) -0.2,-5.25 ; 7.3,-5.25 cw(c8.75,-5.589) 10.2,-5.25 cw(c8.75,-4.911) 7.3,-5.25 ; 14.8,-5.25 cw(c16.25,-5.589) 17.7,-5.25 cw(c16.25,-4.911) 14.8,-5.25 ; 22.3,-5.25 cw(c23.75,-5.589) 25.2,-5.25 cw(c23.75,-4.911) 22.3,-5.25 ; 29.8,-5.25 cw(c31.25,-5.589) 32.7,-5.25 cw(c31.25,-4.911) 29.8,-5.25 ; 37.3,-5.25 cw(c38.75,-5.589) 40.2,-5.25 cw(c38.75,-4.911) 37.3,-5.25 ; 44.8,-5.25 cw(c46.25,-5.589) 47.7,-5.25 cw(c46.25,-4.911) 44.8,-5.25 ; 52.3,-5.25 cw(c53.75,-5.589) 55.2,-5.25 cw(c53.75,-4.911) 52.3,-5.25 ; 59.8,-5.25 cw(c61.25,-5.589) 62.7,-5.25 cw(c61.25,-4.911) 59.8,-5.25
F.Fab:
  circle w0.254: c1.25,5.75 r1.5
  circle w0.254: c8.75,5.75 r1.5
  circle w0.254: c16.25,5.75 r1.5
  circle w0.254: c23.75,5.75 r1.5
  circle w0.254: c31.25,5.75 r1.5
  circle w0.254: c38.75,5.75 r1.5
  circle w0.254: c46.25,5.75 r1.5
  circle w0.254: c53.75,5.75 r1.5
  circle w0.254: c61.25,5.75 r1.5
  lines w0.254: -2.75,-3.8 63.75,-3.8 ; -1.25,-6.7 -1.25,8.3 ; 6.25,-6.7 6.25,8.3 ; 13.75,-6.7 13.75,8.3 ; 21.25,-6.7 21.25,8.3 ; 28.75,-6.7 28.75,8.3 ; 36.25,-6.7 36.25,8.3 ; 43.75,-6.7 43.75,8.3 ; 51.25,-6.7 51.25,8.3 ; 58.75,-6.7 58.75,8.3 ; -2.75,-4.7 -2.75,8.3 63.75,8.3 63.75,-6.7 -0.75,-6.7 -2.75,-4.7 ; -0.75,-2.2 -0.75,2.2 3.25,2.2 3.25,-2.2 -0.75,-2.2 ; -0.75,-0.5 -0.75,0.5 3.25,0.5 3.25,-0.5 -0.75,-0.5 ; -0.2,-5.25 cw(c1.25,-5.589) 2.7,-5.25 cw(c1.25,-4.911) -0.2,-5.25 ; 6.75,-2.2 6.75,2.2 10.75,2.2 10.75,-2.2 6.75,-2.2 ; 6.75,-0.5 6.75,0.5 10.75,0.5 10.75,-0.5 6.75,-0.5 ; 7.3,-5.25 cw(c8.75,-5.589) 10.2,-5.25 cw(c8.75,-4.911) 7.3,-5.25 ; 14.25,-2.2 14.25,2.2 18.25,2.2 18.25,-2.2 14.25,-2.2 ; 14.25,-0.5 14.25,0.5 18.25,0.5 18.25,-0.5 14.25,-0.5 ; 14.8,-5.25 cw(c16.25,-5.589) 17.7,-5.25 cw(c16.25,-4.911) 14.8,-5.25 ; 21.75,-2.2 21.75,2.2 25.75,2.2 25.75,-2.2 21.75,-2.2 ; 21.75,-0.5 21.75,0.5 25.75,0.5 25.75,-0.5 21.75,-0.5 ; 22.3,-5.25 cw(c23.75,-5.589) 25.2,-5.25 cw(c23.75,-4.911) 22.3,-5.25 ; 29.25,-2.2 29.25,2.2 33.25,2.2 33.25,-2.2 29.25,-2.2 ; 29.25,-0.5 29.25,0.5 33.25,0.5 33.25,-0.5 29.25,-0.5 ; 29.8,-5.25 cw(c31.25,-5.589) 32.7,-5.25 cw(c31.25,-4.911) 29.8,-5.25 ; 36.75,-2.2 36.75,2.2 40.75,2.2 40.75,-2.2 36.75,-2.2 ; 36.75,-0.5 36.75,0.5 40.75,0.5 40.75,-0.5 36.75,-0.5 ; 37.3,-5.25 cw(c38.75,-5.589) 40.2,-5.25 cw(c38.75,-4.911) 37.3,-5.25 ; 44.25,-2.2 44.25,2.2 48.25,2.2 48.25,-2.2 44.25,-2.2 ; 44.25,-0.5 44.25,0.5 48.25,0.5 48.25,-0.5 44.25,-0.5 ; 44.8,-5.25 cw(c46.25,-5.589) 47.7,-5.25 cw(c46.25,-4.911) 44.8,-5.25 ; 51.75,-2.2 51.75,2.2 55.75,2.2 55.75,-2.2 51.75,-2.2 ; 51.75,-0.5 51.75,0.5 55.75,0.5 55.75,-0.5 51.75,-0.5 ; 52.3,-5.25 cw(c53.75,-5.589) 55.2,-5.25 cw(c53.75,-4.911) 52.3,-5.25 ; 59.25,-2.2 59.25,2.2 63.25,2.2 63.25,-2.2 59.25,-2.2 ; 59.25,-0.5 59.25,0.5 63.25,0.5 63.25,-0.5 59.25,-0.5 ; 59.8,-5.25 cw(c61.25,-5.589) 62.7,-5.25 cw(c61.25,-4.911) 59.8,-5.25
  text "'.Designator'" at 26.453,0.96 h1
F.CrtYd:
  lines w0.254: -3.25,-7.2 -3.25,8.8 64.25,8.8 64.25,-7.2 -3.25,-7.2

## TerminalBlock_WAGO_804-310_1x10_P7.50mm_45Degree [mm]
pads (20):
  rrect12% 2x3 hole 1.2: 1(0,0)
  rect 2x3 hole 1.2: 1(2.5,5)
  rrect100% 2x3 hole 1.2: 2(7.5,0) 2(10,5) 3(15,0) 3(17.5,5) 4(22.5,0) 4(25,5) 5(30,0) 5(32.5,5) 6(37.5,0) 6(40,5) 7(45,0) 7(47.5,5) 8(52.5,0) 8(55,5) 9(60,0) 9(62.5,5) 10(67.5,0) 10(70,5)
F.SilkS:
  region: 0.44,-7.43 -0.44,-7.43 0,-6.82
  lines w0.254: -2.87,-3.8 71.37,-3.8 ; -1.25,-6.82 -1.25,-1.98 ; -1.25,1.98 -1.25,8.42 ; -0.75,-1.98 -0.75,-2.2 3.25,-2.2 3.25,2.2 -0.75,2.2 -0.75,1.98 ; -0.3,-6.82 -2.87,-6.82 -2.87,8.42 71.37,8.42 71.37,6.98 ; 0.3,-6.82 71.37,-6.82 71.37,3.02 ; 1.02,4.268 cw(c1.25,5.75) 2.109,6.98 ; 1.48,-0.5 3.25,-0.5 3.25,0.5 1.48,0.5 ; 6.25,-6.82 6.25,-1.98 ; 6.25,1.98 6.25,8.42 ; 6.75,-1.98 6.75,-2.2 10.75,-2.2 10.75,2.2 6.75,2.2 6.75,1.98 ; 8.52,4.268 cw(c8.75,5.75) 9.609,6.98 ; 8.98,-0.5 10.75,-0.5 10.75,0.5 8.98,0.5 ; 13.75,-6.82 13.75,-1.98 ; 13.75,1.98 13.75,8.42 ; 14.25,-1.98 14.25,-2.2 18.25,-2.2 18.25,2.2 14.25,2.2 14.25,1.98 ; 16.02,4.268 cw(c16.25,5.75) 17.109,6.98 ; 16.48,-0.5 18.25,-0.5 18.25,0.5 16.48,0.5 ; 21.25,-6.82 21.25,-1.98 ; 21.25,1.98 21.25,8.42 ; 21.75,-1.98 21.75,-2.2 25.75,-2.2 25.75,2.2 21.75,2.2 21.75,1.98 ; 23.52,4.268 cw(c23.75,5.75) 24.609,6.98 ; 23.98,-0.5 25.75,-0.5 25.75,0.5 23.98,0.5 ; 28.75,-6.82 28.75,-1.98 ; 28.75,1.98 28.75,8.42 ; 29.25,-1.98 29.25,-2.2 33.25,-2.2 33.25,2.2 29.25,2.2 29.25,1.98 ; 31.02,4.268 cw(c31.25,5.75) 32.109,6.98 ; 31.48,-0.5 33.25,-0.5 33.25,0.5 31.48,0.5 ; 36.25,-6.82 36.25,-1.98 ; 36.25,1.98 36.25,8.42 ; 36.75,-1.98 36.75,-2.2 40.75,-2.2 40.75,2.2 36.75,2.2 36.75,1.98 ; 38.52,4.268 cw(c38.75,5.75) 39.609,6.98 ; 38.98,-0.5 40.75,-0.5 40.75,0.5 38.98,0.5 ; 43.75,-6.82 43.75,-1.98 ; 43.75,1.98 43.75,8.42 ; 44.25,-1.98 44.25,-2.2 48.25,-2.2 48.25,2.2 44.25,2.2 44.25,1.98 ; 46.02,4.268 cw(c46.25,5.75) 47.109,6.98 ; 46.48,-0.5 48.25,-0.5 48.25,0.5 46.48,0.5 ; 51.25,-6.82 51.25,-1.98 ; 51.25,1.98 51.25,8.42 ; 51.75,-1.98 51.75,-2.2 55.75,-2.2 55.75,2.2 51.75,2.2 51.75,1.98 ; 53.52,4.268 cw(c53.75,5.75) 54.609,6.98 ; 53.98,-0.5 55.75,-0.5 55.75,0.5 53.98,0.5 ; 58.75,-6.82 58.75,-1.98 ; 58.75,1.98 58.75,8.42 ; 59.25,-1.98 59.25,-2.2 63.25,-2.2 63.25,2.2 59.25,2.2 59.25,1.98 ; 61.02,4.268 cw(c61.25,5.75) 62.109,6.98 ; 61.48,-0.5 63.25,-0.5 63.25,0.5 61.48,0.5 ; 66.25,-6.82 66.25,-1.98 ; 66.25,1.98 66.25,8.42 ; 66.75,-1.98 66.75,-2.2 70.75,-2.2 70.75,2.2 66.75,2.2 66.75,1.98 ; 68.52,4.268 cw(c68.75,5.75) 69.609,6.98 ; 68.98,-0.5 70.75,-0.5 70.75,0.5 68.98,0.5 ; -0.2,-5.25 cw(c1.25,-5.589) 2.7,-5.25 cw(c1.25,-4.911) -0.2,-5.25 ; 7.3,-5.25 cw(c8.75,-5.589) 10.2,-5.25 cw(c8.75,-4.911) 7.3,-5.25 ; 14.8,-5.25 cw(c16.25,-5.589) 17.7,-5.25 cw(c16.25,-4.911) 14.8,-5.25 ; 22.3,-5.25 cw(c23.75,-5.589) 25.2,-5.25 cw(c23.75,-4.911) 22.3,-5.25 ; 29.8,-5.25 cw(c31.25,-5.589) 32.7,-5.25 cw(c31.25,-4.911) 29.8,-5.25 ; 37.3,-5.25 cw(c38.75,-5.589) 40.2,-5.25 cw(c38.75,-4.911) 37.3,-5.25 ; 44.8,-5.25 cw(c46.25,-5.589) 47.7,-5.25 cw(c46.25,-4.911) 44.8,-5.25 ; 52.3,-5.25 cw(c53.75,-5.589) 55.2,-5.25 cw(c53.75,-4.911) 52.3,-5.25 ; 59.8,-5.25 cw(c61.25,-5.589) 62.7,-5.25 cw(c61.25,-4.911) 59.8,-5.25 ; 67.3,-5.25 cw(c68.75,-5.589) 70.2,-5.25 cw(c68.75,-4.911) 67.3,-5.25
F.Fab:
  circle w0.254: c1.25,5.75 r1.5
  circle w0.254: c8.75,5.75 r1.5
  circle w0.254: c16.25,5.75 r1.5
  circle w0.254: c23.75,5.75 r1.5
  circle w0.254: c31.25,5.75 r1.5
  circle w0.254: c38.75,5.75 r1.5
  circle w0.254: c46.25,5.75 r1.5
  circle w0.254: c53.75,5.75 r1.5
  circle w0.254: c61.25,5.75 r1.5
  circle w0.254: c68.75,5.75 r1.5
  lines w0.254: -2.75,-3.8 71.25,-3.8 ; -1.25,-6.7 -1.25,8.3 ; 6.25,-6.7 6.25,8.3 ; 13.75,-6.7 13.75,8.3 ; 21.25,-6.7 21.25,8.3 ; 28.75,-6.7 28.75,8.3 ; 36.25,-6.7 36.25,8.3 ; 43.75,-6.7 43.75,8.3 ; 51.25,-6.7 51.25,8.3 ; 58.75,-6.7 58.75,8.3 ; 66.25,-6.7 66.25,8.3 ; -2.75,-4.7 -2.75,8.3 71.25,8.3 71.25,-6.7 -0.75,-6.7 -2.75,-4.7 ; -0.75,-2.2 -0.75,2.2 3.25,2.2 3.25,-2.2 -0.75,-2.2 ; -0.75,-0.5 -0.75,0.5 3.25,0.5 3.25,-0.5 -0.75,-0.5 ; -0.2,-5.25 cw(c1.25,-5.589) 2.7,-5.25 cw(c1.25,-4.911) -0.2,-5.25 ; 6.75,-2.2 6.75,2.2 10.75,2.2 10.75,-2.2 6.75,-2.2 ; 6.75,-0.5 6.75,0.5 10.75,0.5 10.75,-0.5 6.75,-0.5 ; 7.3,-5.25 cw(c8.75,-5.589) 10.2,-5.25 cw(c8.75,-4.911) 7.3,-5.25 ; 14.25,-2.2 14.25,2.2 18.25,2.2 18.25,-2.2 14.25,-2.2 ; 14.25,-0.5 14.25,0.5 18.25,0.5 18.25,-0.5 14.25,-0.5 ; 14.8,-5.25 cw(c16.25,-5.589) 17.7,-5.25 cw(c16.25,-4.911) 14.8,-5.25 ; 21.75,-2.2 21.75,2.2 25.75,2.2 25.75,-2.2 21.75,-2.2 ; 21.75,-0.5 21.75,0.5 25.75,0.5 25.75,-0.5 21.75,-0.5 ; 22.3,-5.25 cw(c23.75,-5.589) 25.2,-5.25 cw(c23.75,-4.911) 22.3,-5.25 ; 29.25,-2.2 29.25,2.2 33.25,2.2 33.25,-2.2 29.25,-2.2 ; 29.25,-0.5 29.25,0.5 33.25,0.5 33.25,-0.5 29.25,-0.5 ; 29.8,-5.25 cw(c31.25,-5.589) 32.7,-5.25 cw(c31.25,-4.911) 29.8,-5.25 ; 36.75,-2.2 36.75,2.2 40.75,2.2 40.75,-2.2 36.75,-2.2 ; 36.75,-0.5 36.75,0.5 40.75,0.5 40.75,-0.5 36.75,-0.5 ; 37.3,-5.25 cw(c38.75,-5.589) 40.2,-5.25 cw(c38.75,-4.911) 37.3,-5.25 ; 44.25,-2.2 44.25,2.2 48.25,2.2 48.25,-2.2 44.25,-2.2 ; 44.25,-0.5 44.25,0.5 48.25,0.5 48.25,-0.5 44.25,-0.5 ; 44.8,-5.25 cw(c46.25,-5.589) 47.7,-5.25 cw(c46.25,-4.911) 44.8,-5.25 ; 51.75,-2.2 51.75,2.2 55.75,2.2 55.75,-2.2 51.75,-2.2 ; 51.75,-0.5 51.75,0.5 55.75,0.5 55.75,-0.5 51.75,-0.5 ; 52.3,-5.25 cw(c53.75,-5.589) 55.2,-5.25 cw(c53.75,-4.911) 52.3,-5.25 ; 59.25,-2.2 59.25,2.2 63.25,2.2 63.25,-2.2 59.25,-2.2 ; 59.25,-0.5 59.25,0.5 63.25,0.5 63.25,-0.5 59.25,-0.5 ; 59.8,-5.25 cw(c61.25,-5.589) 62.7,-5.25 cw(c61.25,-4.911) 59.8,-5.25 ; 66.75,-2.2 66.75,2.2 70.75,2.2 70.75,-2.2 66.75,-2.2 ; 66.75,-0.5 66.75,0.5 70.75,0.5 70.75,-0.5 66.75,-0.5 ; 67.3,-5.25 cw(c68.75,-5.589) 70.2,-5.25 cw(c68.75,-4.911) 67.3,-5.25
  text "'.Designator'" at 30.203,0.96 h1
F.CrtYd:
  lines w0.254: -3.25,-7.2 -3.25,8.8 71.75,8.8 71.75,-7.2 -3.25,-7.2

## TerminalBlock_WAGO_804-311_1x11_P7.50mm_45Degree [mm]
pads (22):
  rrect12% 2x3 hole 1.2: 1(0,0)
  rect 2x3 hole 1.2: 1(2.5,5)
  rrect100% 2x3 hole 1.2: 2(7.5,0) 2(10,5) 3(15,0) 3(17.5,5) 4(22.5,0) 4(25,5) 5(30,0) 5(32.5,5) 6(37.5,0) 6(40,5) 7(45,0) 7(47.5,5) 8(52.5,0) 8(55,5) 9(60,0) 9(62.5,5) 10(67.5,0) 10(70,5) 11(75,0) 11(77.5,5)
F.SilkS:
  drawing of 151 lines, arcs and shapes, not listed
F.Fab:
  circle w0.254: c1.25,5.75 r1.5
  circle w0.254: c8.75,5.75 r1.5
  circle w0.254: c16.25,5.75 r1.5
  circle w0.254: c23.75,5.75 r1.5
  circle w0.254: c31.25,5.75 r1.5
  circle w0.254: c38.75,5.75 r1.5
  circle w0.254: c46.25,5.75 r1.5
  circle w0.254: c53.75,5.75 r1.5
  circle w0.254: c61.25,5.75 r1.5
  circle w0.254: c68.75,5.75 r1.5
  circle w0.254: c76.25,5.75 r1.5
  lines w0.254: -2.75,-3.8 78.75,-3.8 ; -1.25,-6.7 -1.25,8.3 ; 6.25,-6.7 6.25,8.3 ; 13.75,-6.7 13.75,8.3 ; 21.25,-6.7 21.25,8.3 ; 28.75,-6.7 28.75,8.3 ; 36.25,-6.7 36.25,8.3 ; 43.75,-6.7 43.75,8.3 ; 51.25,-6.7 51.25,8.3 ; 58.75,-6.7 58.75,8.3 ; 66.25,-6.7 66.25,8.3 ; 73.75,-6.7 73.75,8.3 ; -2.75,-4.7 -2.75,8.3 78.75,8.3 78.75,-6.7 -0.75,-6.7 -2.75,-4.7 ; -0.75,-2.2 -0.75,2.2 3.25,2.2 3.25,-2.2 -0.75,-2.2 ; -0.75,-0.5 -0.75,0.5 3.25,0.5 3.25,-0.5 -0.75,-0.5 ; -0.2,-5.25 cw(c1.25,-5.589) 2.7,-5.25 cw(c1.25,-4.911) -0.2,-5.25 ; 6.75,-2.2 6.75,2.2 10.75,2.2 10.75,-2.2 6.75,-2.2 ; 6.75,-0.5 6.75,0.5 10.75,0.5 10.75,-0.5 6.75,-0.5 ; 7.3,-5.25 cw(c8.75,-5.589) 10.2,-5.25 cw(c8.75,-4.911) 7.3,-5.25 ; 14.25,-2.2 14.25,2.2 18.25,2.2 18.25,-2.2 14.25,-2.2 ; 14.25,-0.5 14.25,0.5 18.25,0.5 18.25,-0.5 14.25,-0.5 ; 14.8,-5.25 cw(c16.25,-5.589) 17.7,-5.25 cw(c16.25,-4.911) 14.8,-5.25 ; 21.75,-2.2 21.75,2.2 25.75,2.2 25.75,-2.2 21.75,-2.2 ; 21.75,-0.5 21.75,0.5 25.75,0.5 25.75,-0.5 21.75,-0.5 ; 22.3,-5.25 cw(c23.75,-5.589) 25.2,-5.25 cw(c23.75,-4.911) 22.3,-5.25 ; 29.25,-2.2 29.25,2.2 33.25,2.2 33.25,-2.2 29.25,-2.2 ; 29.25,-0.5 29.25,0.5 33.25,0.5 33.25,-0.5 29.25,-0.5 ; 29.8,-5.25 cw(c31.25,-5.589) 32.7,-5.25 cw(c31.25,-4.911) 29.8,-5.25 ; 36.75,-2.2 36.75,2.2 40.75,2.2 40.75,-2.2 36.75,-2.2 ; 36.75,-0.5 36.75,0.5 40.75,0.5 40.75,-0.5 36.75,-0.5 ; 37.3,-5.25 cw(c38.75,-5.589) 40.2,-5.25 cw(c38.75,-4.911) 37.3,-5.25 ; 44.25,-2.2 44.25,2.2 48.25,2.2 48.25,-2.2 44.25,-2.2 ; 44.25,-0.5 44.25,0.5 48.25,0.5 48.25,-0.5 44.25,-0.5 ; 44.8,-5.25 cw(c46.25,-5.589) 47.7,-5.25 cw(c46.25,-4.911) 44.8,-5.25 ; 51.75,-2.2 51.75,2.2 55.75,2.2 55.75,-2.2 51.75,-2.2 ; 51.75,-0.5 51.75,0.5 55.75,0.5 55.75,-0.5 51.75,-0.5 ; 52.3,-5.25 cw(c53.75,-5.589) 55.2,-5.25 cw(c53.75,-4.911) 52.3,-5.25 ; 59.25,-2.2 59.25,2.2 63.25,2.2 63.25,-2.2 59.25,-2.2 ; 59.25,-0.5 59.25,0.5 63.25,0.5 63.25,-0.5 59.25,-0.5 ; 59.8,-5.25 cw(c61.25,-5.589) 62.7,-5.25 cw(c61.25,-4.911) 59.8,-5.25 ; 66.75,-2.2 66.75,2.2 70.75,2.2 70.75,-2.2 66.75,-2.2 ; 66.75,-0.5 66.75,0.5 70.75,0.5 70.75,-0.5 66.75,-0.5 ; 67.3,-5.25 cw(c68.75,-5.589) 70.2,-5.25 cw(c68.75,-4.911) 67.3,-5.25 ; 74.25,-2.2 74.25,2.2 78.25,2.2 78.25,-2.2 74.25,-2.2 ; 74.25,-0.5 74.25,0.5 78.25,0.5 78.25,-0.5 74.25,-0.5 ; 74.8,-5.25 cw(c76.25,-5.589) 77.7,-5.25 cw(c76.25,-4.911) 74.8,-5.25
  text "'.Designator'" at 33.953,0.96 h1
F.CrtYd:
  lines w0.254: -3.25,-7.2 -3.25,8.8 79.25,8.8 79.25,-7.2 -3.25,-7.2